# Altium schematic symbol library Sch_MolexConnectors.SchLib: 3 symbols
Pins are listed as number, name and electrical type; pins without a type are passive.

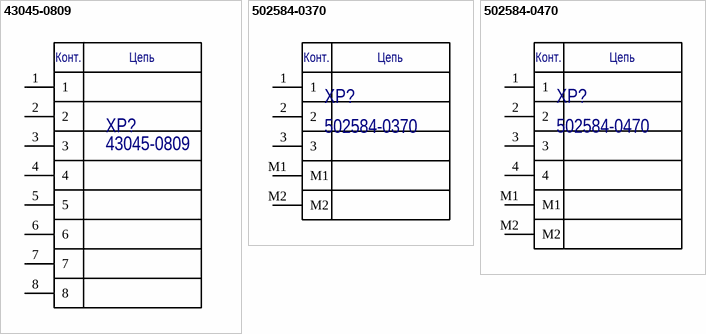
[diagram p0: symbols 43045-0809 to 502584-0470]

## 43045-0809
designator XP?
Micro-Fit 3.0 Right-Angle Header, 3.00mm Pitch, Dual Row, 8 Circuits, with Solder Tab, Tin, Glow-Wire Capable, Black; Manufacturer: Molex Connectors; Part Number: 43045-0809
pins: 1, 2, 3, 4, 5, 6, 7, 8
text: Конт.; Цепь

## 502584-0370
designator XP?
1.50mm Pitch, CLIK-Mate PCB Receptacle, Single Row, Surface Mount, Tin Plating, Positive Lock, 3 Circuits, Beige; Manufacturer: Molex Connectors; Part Number: 502584-0370
pins: 1, 2, 3, M1, M2
text: Конт.; Цепь

## 502584-0470
designator XP?
1.50mm Pitch, CLIK-Mate PCB Receptacle, Single Row, Surface Mount, Tin Plating, Positive Lock, 3 Circuits, Beige; Manufacturer: Molex Connectors; Part Number: 502584-0470
footprint 502584-0470
pins: 1, 2, 3, 4, M1, M2
text: Конт.; Цепь